# EAGLE library part SM09B-SRSS-TB (library svis)
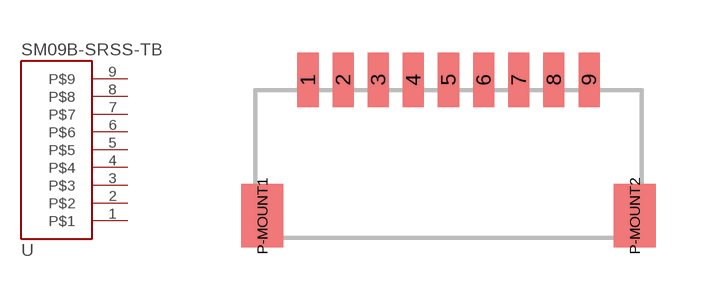
[diagram p1: symbol with the pads of SM09B-SRSS-TB; footprint SM09B-SRSS-TB]

Designator prefix -

## SM09B-SRSS-TB  [SM09B-SRSS-TB]
1  P$1
2  P$2
3  P$3
4  P$4
5  P$5
6  P$6
7  P$7
8  P$8
9  P$9

## Footprint SM09B-SRSS-TB (pad centres in mm)
smd 0.6 x 1.55: 1 -2.5,0; 2 -1.5,0; 3 -0.5,0; 4 0.5,0; 5 1.5,0; 6 2.5,0; 7 3.5,0; 8 4.5,0; 9 5.5,0
smd 1.2 x 1.8: P-MOUNT1 -3.8,-3.875; P-MOUNT2 6.8,-3.875